# EAGLE library part DSPIC33FJ12GP201 (library microcontrollers)
dsPIC33 General DSC
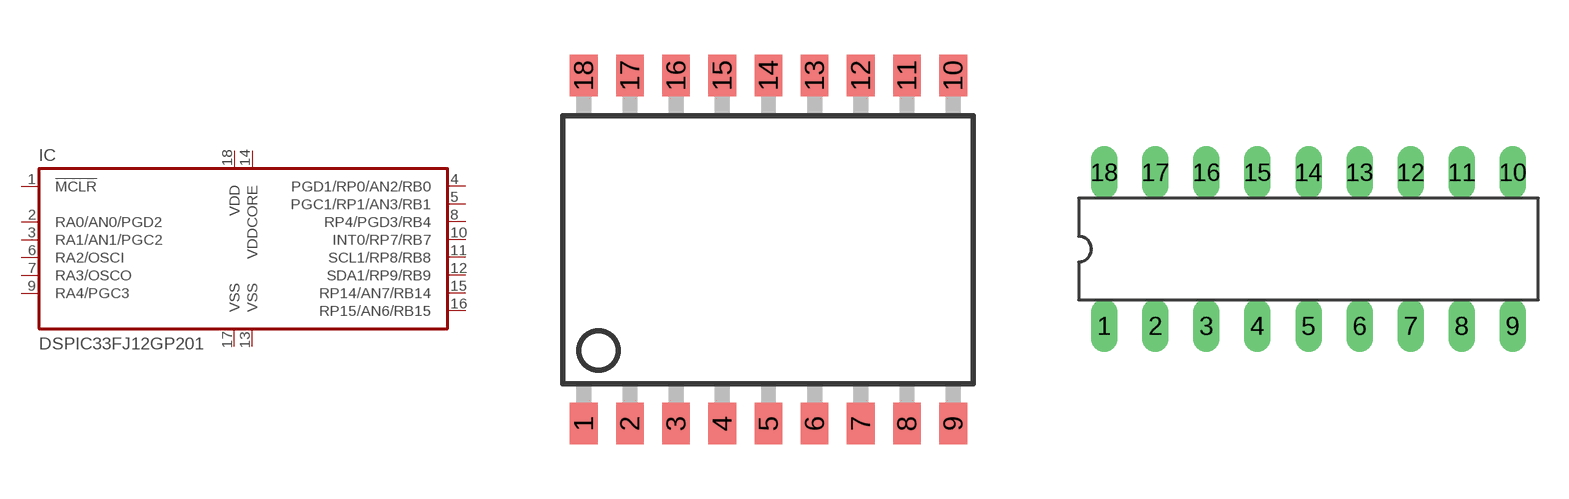
[diagram p4: symbol with the pads of SOIC18W; footprints SOIC18W, DIP18]

Designator prefix IC

## DSPIC33FJ12GP201/SO  [SOIC18W]
1  !MCLR  in
2  RA0/AN0/PGD2
3  RA1/AN1/PGC2
4  PGD1/RP0/AN2/RB0
5  PGC1/RP1/AN3/RB1
6  RA2/OSCI
7  RA3/OSCO
8  RP4/PGD3/RB4
9  RA4/PGC3
10  INT0/RP7/RB7
11  SCL1/RP8/RB8
12  SDA1/RP9/RB9
13  VSS
14  VDDCORE
15  RP14/AN7/RB14
16  RP15/AN6/RB15
17  VSS
18  VDD

## DSPIC33FJ12GP201/SP  [DIP18]
Pads as for SOIC18W

## Footprint SOIC18W (pad centres in mm)
Small Outline Wide Plastic Gull Wing 300-mil body, package type SO
smd 0.762 x 1.143: 1 -5.08,-4.788; 2 -3.81,-4.788; 3 -2.54,-4.788; 4 -1.27,-4.788; 5 0,-4.788; 6 1.27,-4.788; 7 2.54,-4.788; 8 3.81,-4.788; 9 5.08,-4.788; 10 5.08,4.788; 11 3.81,4.788; 12 2.54,4.788; 13 1.27,4.788; 14 0,4.788; 15 -1.27,4.788; 16 -2.54,4.788; 17 -3.81,4.788; 18 -5.08,4.788

## Footprint DIP18 (pad centres in mm)
Dual In Line package type P
drill 0.813 long: 1 -10.16,-3.81; 2 -7.62,-3.81; 3 -5.08,-3.81; 4 -2.54,-3.81; 5 0,-3.81; 6 2.54,-3.81; 7 5.08,-3.81; 8 7.62,-3.81; 9 10.16,-3.81; 10 10.16,3.81; 11 7.62,3.81; 12 5.08,3.81; 13 2.54,3.81; 14 0,3.81; 15 -2.54,3.81; 16 -5.08,3.81; 17 -7.62,3.81; 18 -10.16,3.81